# Altium integrated library Analog Devices Data Converters Analog-to-Digital Converters.IntLib: 2404 symbols (part 36 of 346)
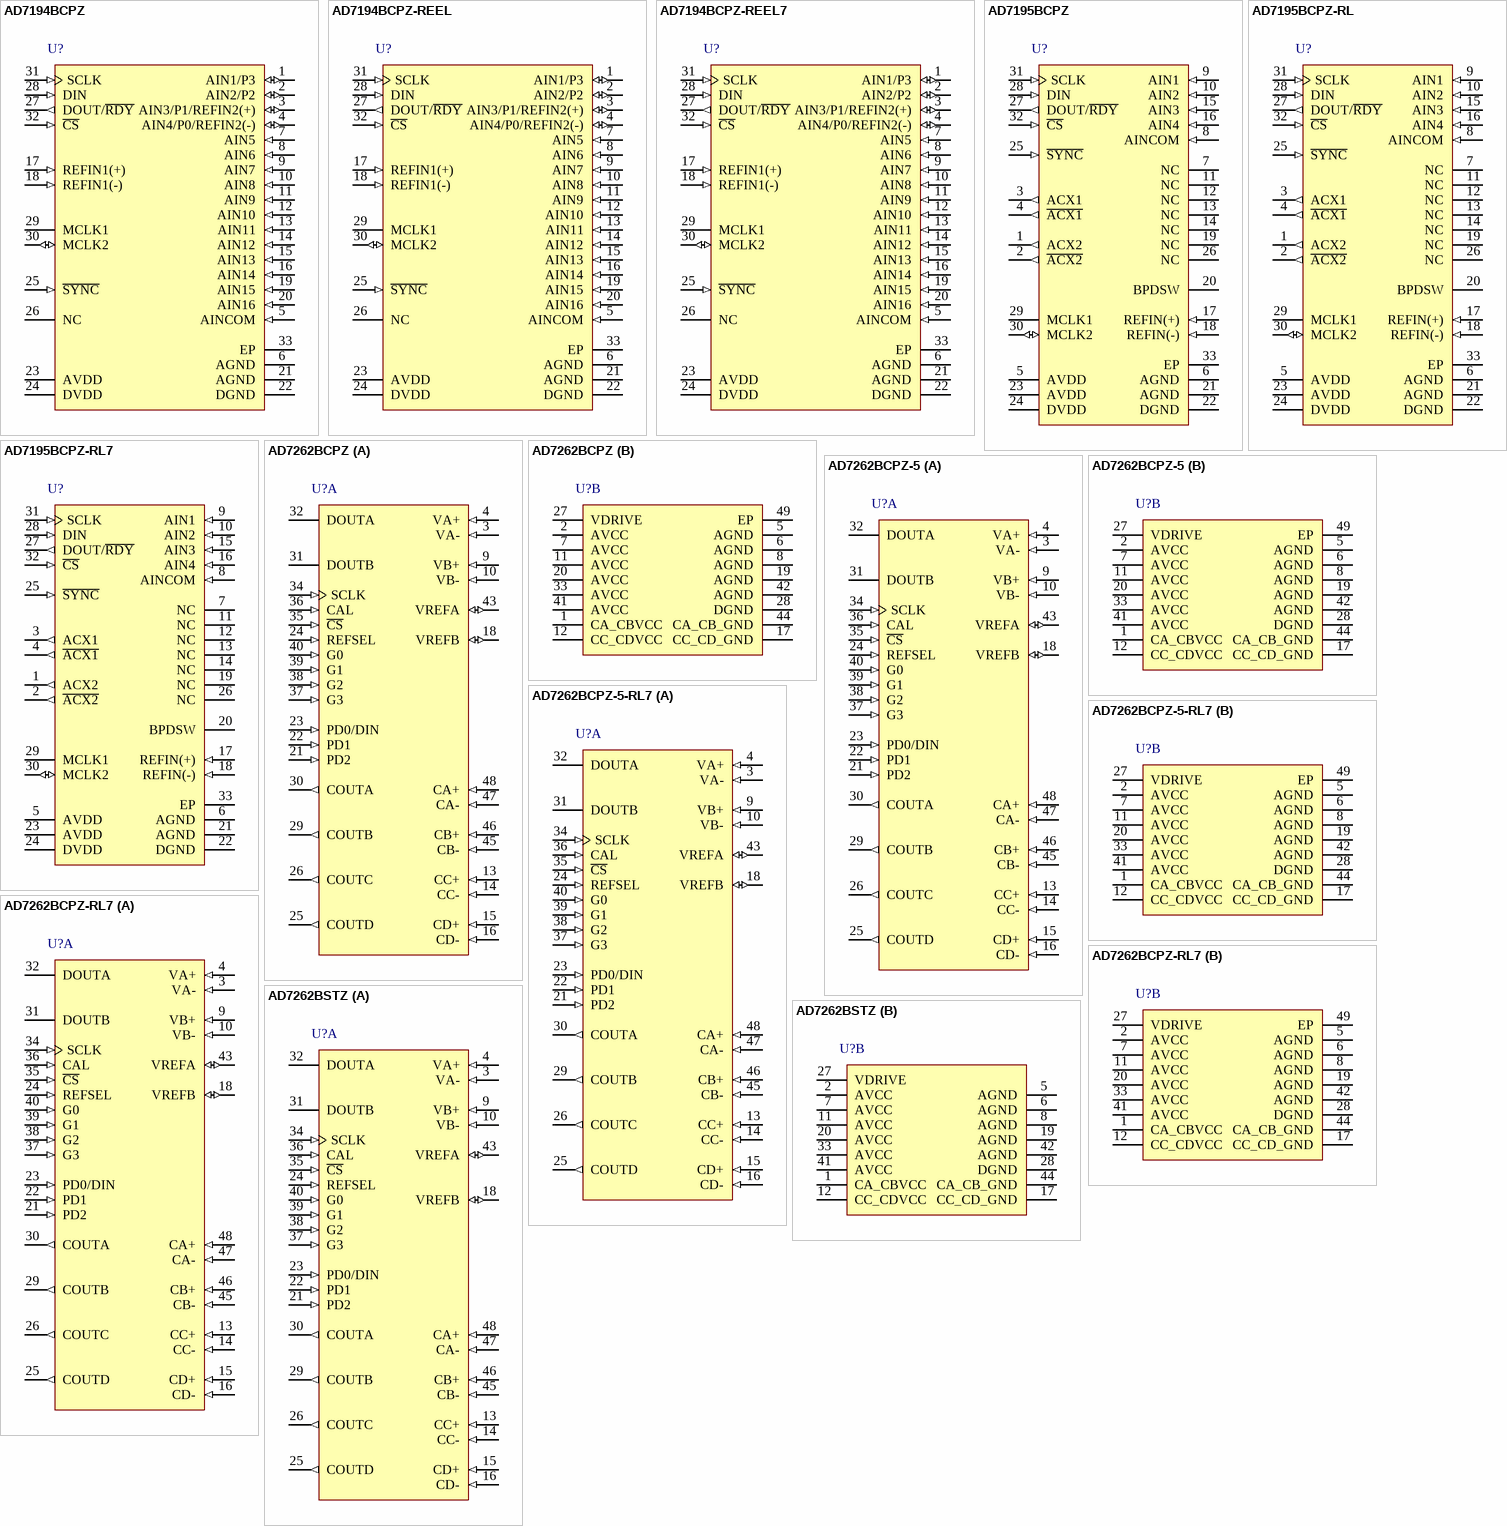
[diagram p174: symbols AD7194BCPZ to AD7262BSTZ]

## AD7262BSTZ
designator U?
Dual 12-Bit SAR Analog-to-Digital Converter with Serial, SPI Interface and PGA, Four Comparators, Simultaneous Sampling, 1MSPS, -40 to +105 degC, ST-48, Pb-Free, Tray; Generic Part Number: AD7262; Manufacturer: Analog Devices; PartNumber: AD7262BSTZ; Resolution (Bits): 12; Channels: 2; Throughput Rate (SPS): 1M; Interface: Ser, SPI; DatasheetVersion: Rev.0; PackageVersion: revA; PackageReference: ST-48; PackageDescription: 48-Pin Thin Quad Flat Pack 0.5 mm Pitch; Supplier 1: Digi-Key; Supplier Part Number 1: AD7262BSTZ-ND; Supplier 2: Newark; Supplier Part Number 2: 07P8946; Supplier 3: Mouser; Supplier Part Number 3: 584-AD7262BSTZ; RoHS: Y; Packing: Tray; Mounting Technology: Surface Mount; ComponentLink1Description: Manufacturer URL; ComponentLink1URL: http://www.analog.com/en/index.html; ComponentLink2Description: Datasheet; ComponentLink2URL: http://www.analog.com/static/imported-files/data_sheets/AD7262.pdf; ComponentLink3Description: Package Specification; ComponentLink3URL: http://www.analog.com/static/imported-files/packages/PKG_PDF/LQFP%28ST%29/ST_48.pdf; ComponentLink4Description: Product URL; ComponentLink4URL: http://www.analog.com/en/analog-to-digital-converters/ad-converters/ad7262/products/product.html
footprint ST-48_N (Thin QFP, 48-Leads, Body 7x7mm, Pitch 0.5mm, IPC Medium Density)
footprint ST-48_L (Thin QFP, 48-Leads, Body 7x7mm, Pitch 0.5mm, IPC High Density)
footprint ST-48_M (Thin QFP, 48-Leads, Body 7x7mm, Pitch 0.5mm, IPC Low Density)
part A pins: 3 VA- (in) "Analog Inputs of ADC A. True differential input pair.", 4 VA+ (in) "Analog Inputs of ADC A. True differential input pair.", 9 VB+ (in) "Analog Inputs of ADC B. True differential input pair.", 10 VB- (in) "Analog Inputs of ADC B. True differential input pair.", 13 CC+ (in) "Comparator Inputs. These pins are the inverting and noninverting analog inputs for Comparator C and Comparator D. This pair of comparators offers very fast propagation delays.", 14 CC- (in) "Comparator Inputs. These pins are the inverting and noninverting analog inputs for Comparator C and Comparator D. This pair of comparators offers very fast propagation delays.", 15 CD+ (in) "Comparator Inputs. These pins are the inverting and noninverting analog inputs for Comparator C and Comparator D. This pair of comparators offers very fast propagation delays.", 16 CD- (in) "Comparator Inputs. These pins are the inverting and noninverting analog inputs for Comparator C and Comparator D. This pair of comparators offers very fast propagation delays.", 18 VREFB (io) "Reference Input/Output. Decoupling capacitors are connected to these pins to decouple the internal reference buffer for each respective ADC. Typically, 1 uF capacitors are required to decouple the reference. Provided the (See Datasheet)", 21 PD2 (in) "Logic Input. Places the AD7262/AD7262-5 in selected shutdown mode in conjunction with the PD1 and PD0 pins (see Table 7).", 22 PD1 (in) "Logic Input. Places the AD7262/AD7262-5 in selected shutdown mode in conjunction with the PD2 and PD0 pins (see Table 7).", 23 PD0/DIN (in) "Logic Input/Data Input. Places the AD7262/AD7262-5 in selected shutdown mode in conjunction with the PD2 and PD1 pins (see Table 7). If all gain selection pins, G0 to G3, are tied low, this pin acts as the data input pin, (See Datasheet)", 24 REFSEL (in) "Internal/External Reference Selection. Logic input. If this pin is tied to a logic high voltage, the onchip 2.5 V reference is used as the reference source for both ADC A and ADC B. If the REFSEL pin is tied to GND, an (See Datasheet)", 25 COUTD (out) "Comparator Outputs. These pins provide a CMOS (push-pull) output from each respective comparator. These are digital output pins with logic levels determined by the VDRIVE supply.", 26 COUTC (out) "Comparator Outputs. These pins provide a CMOS (push-pull) output from each respective comparator. These are digital output pins with logic levels determined by the VDRIVE supply.", 29 COUTB (out) "Comparator Outputs. These pins provide a CMOS (push-pull) output from each respective comparator. These are digital output pins with logic levels determined by the VDRIVE supply.", 30 COUTA (out) "Comparator Outputs. These pins provide a CMOS (push-pull) output from each respective comparator. These are digital output pins with logic levels determined by the VDRIVE supply.", 31 DOUTB (hiz) "Serial Data Outputs. The data output from the AD7262/AD7262-5 is supplied to each pin as a serial data stream in twos complement format. The bits are clocked out on the falling edge of the SCLK input. A total of 31 SCLKs is (See Datasheet)", 32 DOUTA (hiz) "Serial Data Outputs. The data output from the AD7262/AD7262-5 is supplied to each pin as a serial data stream in twos complement format. The bits are clocked out on the falling edge of the SCLK input. A total of 31 SCLKs is (See Datasheet)", 34 SCLK (in) "Serial Clock. Logic input. A serial clock input provides the SCLK for accessing the data from the AD7262/AD7262-5. This clock is also used as the clock source for the conversion process. A minimum of 31 clocks is required to (See Datasheet)", 35 ~{CS} (in) "Chip Select. Active low logic input. This input initiates conversions on the AD7262/AD7262-5.", 36 CAL (in) "Logic Input. Initiates an internal offset calibration.", 37 G3 (in) "Logic Inputs. These pins are used to program the gain setting of the front-end amplifiers. If all four pins are tied low, the PD0 pin acts as a data input pin, DIN, and all programming is made via the control register (see (See Datasheet)", 38 G2 (in) "Logic Inputs. These pins are used to program the gain setting of the front-end amplifiers. If all four pins are tied low, the PD0 pin acts as a data input pin, DIN, and all programming is made via the control register (see (See Datasheet)", 39 G1 (in) "Logic Inputs. These pins are used to program the gain setting of the front-end amplifiers. If all four pins are tied low, the PD0 pin acts as a data input pin, DIN, and all programming is made via the control register (see (See Datasheet)", 40 G0 (in) "Logic Inputs. These pins are used to program the gain setting of the front-end amplifiers. If all four pins are tied low, the PD0 pin acts as a data input pin, DIN, and all programming is made via the control register (see (See Datasheet)", 43 VREFA (io) "Reference Input/Output. Decoupling capacitors are connected to these pins to decouple the internal reference buffer for each respective ADC. Typically, 1 uF capacitors are required to decouple the reference. Provided the (See Datasheet)", 45 CB- (in) "Comparator Inputs. These pins are the inverting and noninverting analog inputs for Comparator A and Comparator B. These two comparators have very low power consumption.", 46 CB+ (in) "Comparator Inputs. These pins are the inverting and noninverting analog inputs for Comparator A and Comparator B. These two comparators have very low power consumption.", 47 CA- (in) "Comparator Inputs. These pins are the inverting and noninverting analog inputs for Comparator A and Comparator B. These two comparators have very low power consumption.", 48 CA+ (in) "Comparator Inputs. These pins are the inverting and noninverting analog inputs for Comparator A and Comparator B. These two comparators have very low power consumption."
part B pins: 1 CA_CBVCC (power) "Comparator Supply Voltage, 2.7 V to 5.25 V. This is the supply voltage for Comparator A and Comparator B. This supply should be decoupled to CA_CB_GND. AVCC, CC_CDVCC, and CA_CBVCC can be tied together.", 2 AVCC (power) "Analog Supply Voltage, 4.75 V to 5.25 V. This is the supply voltage for the analog circuitry on the AD7262/AD7262-5. All AVCC pins can be tied together. This supply should be decoupled to AGND with a 100 nF ceramic capacitor (See Datasheet)", 5 AGND (power) "Analog Ground. Ground reference point for all analog circuitry on the AD7262/AD7262-5. All  analog input signals and any external reference signal should be referred to this AGND voltage.  All AGND pins should connect to the (See Datasheet)", 6 AGND (power) "Analog Ground. Ground reference point for all analog circuitry on the AD7262/AD7262-5. All  analog input signals and any external reference signal should be referred to this AGND voltage.  All AGND pins should connect to the (See Datasheet)", 7 AVCC (power) "Analog Supply Voltage, 4.75 V to 5.25 V. This is the supply voltage for the analog circuitry on the AD7262/AD7262-5. All AVCC pins can be tied together. This supply should be decoupled to AGND with a 100 nF ceramic capacitor (See Datasheet)", 8 AGND (power) "Analog Ground. Ground reference point for all analog circuitry on the AD7262/AD7262-5. All  analog input signals and any external reference signal should be referred to this AGND voltage.  All AGND pins should connect to the (See Datasheet)", 11 AVCC (power) "Analog Supply Voltage, 4.75 V to 5.25 V. This is the supply voltage for the analog circuitry on the AD7262/AD7262-5. All AVCC pins can be tied together. This supply should be decoupled to AGND with a 100 nF ceramic capacitor (See Datasheet)", 12 CC_CDVCC (power) "Comparator Supply Voltage, 2.7 V to 5.25 V. This is the supply voltage for Comparator C and Comparator D. This supply should be decoupled to CC_CD_GND. AVCC, CC_CDVCC, and CA_CBVCC can be tied together.", 17 CC_CD_GND (power) "Comparator Ground. This is the ground reference point for all comparator circuitry on the AD7262/ AD7262-5. Both the CA_CB_GND pin and the CC_CD_GND pin should connect to the GND plane of a system and can be tied to AGND. (See Datasheet)", 19 AGND (power) "Analog Ground. Ground reference point for all analog circuitry on the AD7262/AD7262-5. All  analog input signals and any external reference signal should be referred to this AGND voltage.  All AGND pins should connect to the (See Datasheet)", 20 AVCC (power) "Analog Supply Voltage, 4.75 V to 5.25 V. This is the supply voltage for the analog circuitry on the AD7262/AD7262-5. All AVCC pins can be tied together. This supply should be decoupled to AGND with a 100 nF ceramic capacitor (See Datasheet)", 27 VDRIVE (power) "Logic Power Supply Input, 2.7 V to 5.25 V. The voltage supplied at this pin determines at what voltage the interface operates, including the comparator outputs. This pin should be decoupled to DGND.", 28 DGND (power) "Digital Ground. This is the ground reference point for all digital circuitry on the AD7262/AD7262-5. The DGND pin should be connected to the DGND plane of a system. The DGND and AGND voltages should ideally be at the same (See Datasheet)", 33 AVCC (power) "Analog Supply Voltage, 4.75 V to 5.25 V. This is the supply voltage for the analog circuitry on the AD7262/AD7262-5. All AVCC pins can be tied together. This supply should be decoupled to AGND with a 100 nF ceramic capacitor (See Datasheet)", 41 AVCC (power) "Analog Supply Voltage, 4.75 V to 5.25 V. This is the supply voltage for the analog circuitry on the AD7262/AD7262-5. All AVCC pins can be tied together. This supply should be decoupled to AGND with a 100 nF ceramic capacitor (See Datasheet)", 42 AGND (power) "Analog Ground. Ground reference point for all analog circuitry on the AD7262/AD7262-5. All  analog input signals and any external reference signal should be referred to this AGND voltage.  All AGND pins should connect to the (See Datasheet)", 44 CA_CB_GND (power) "Comparator Ground. This is the ground reference point for all comparator circuitry on the AD7262/ AD7262-5. Both the CA_CB_GND pin and the CC_CD_GND pin should connect to the GND plane of a system and can be tied to AGND. (See Datasheet)"

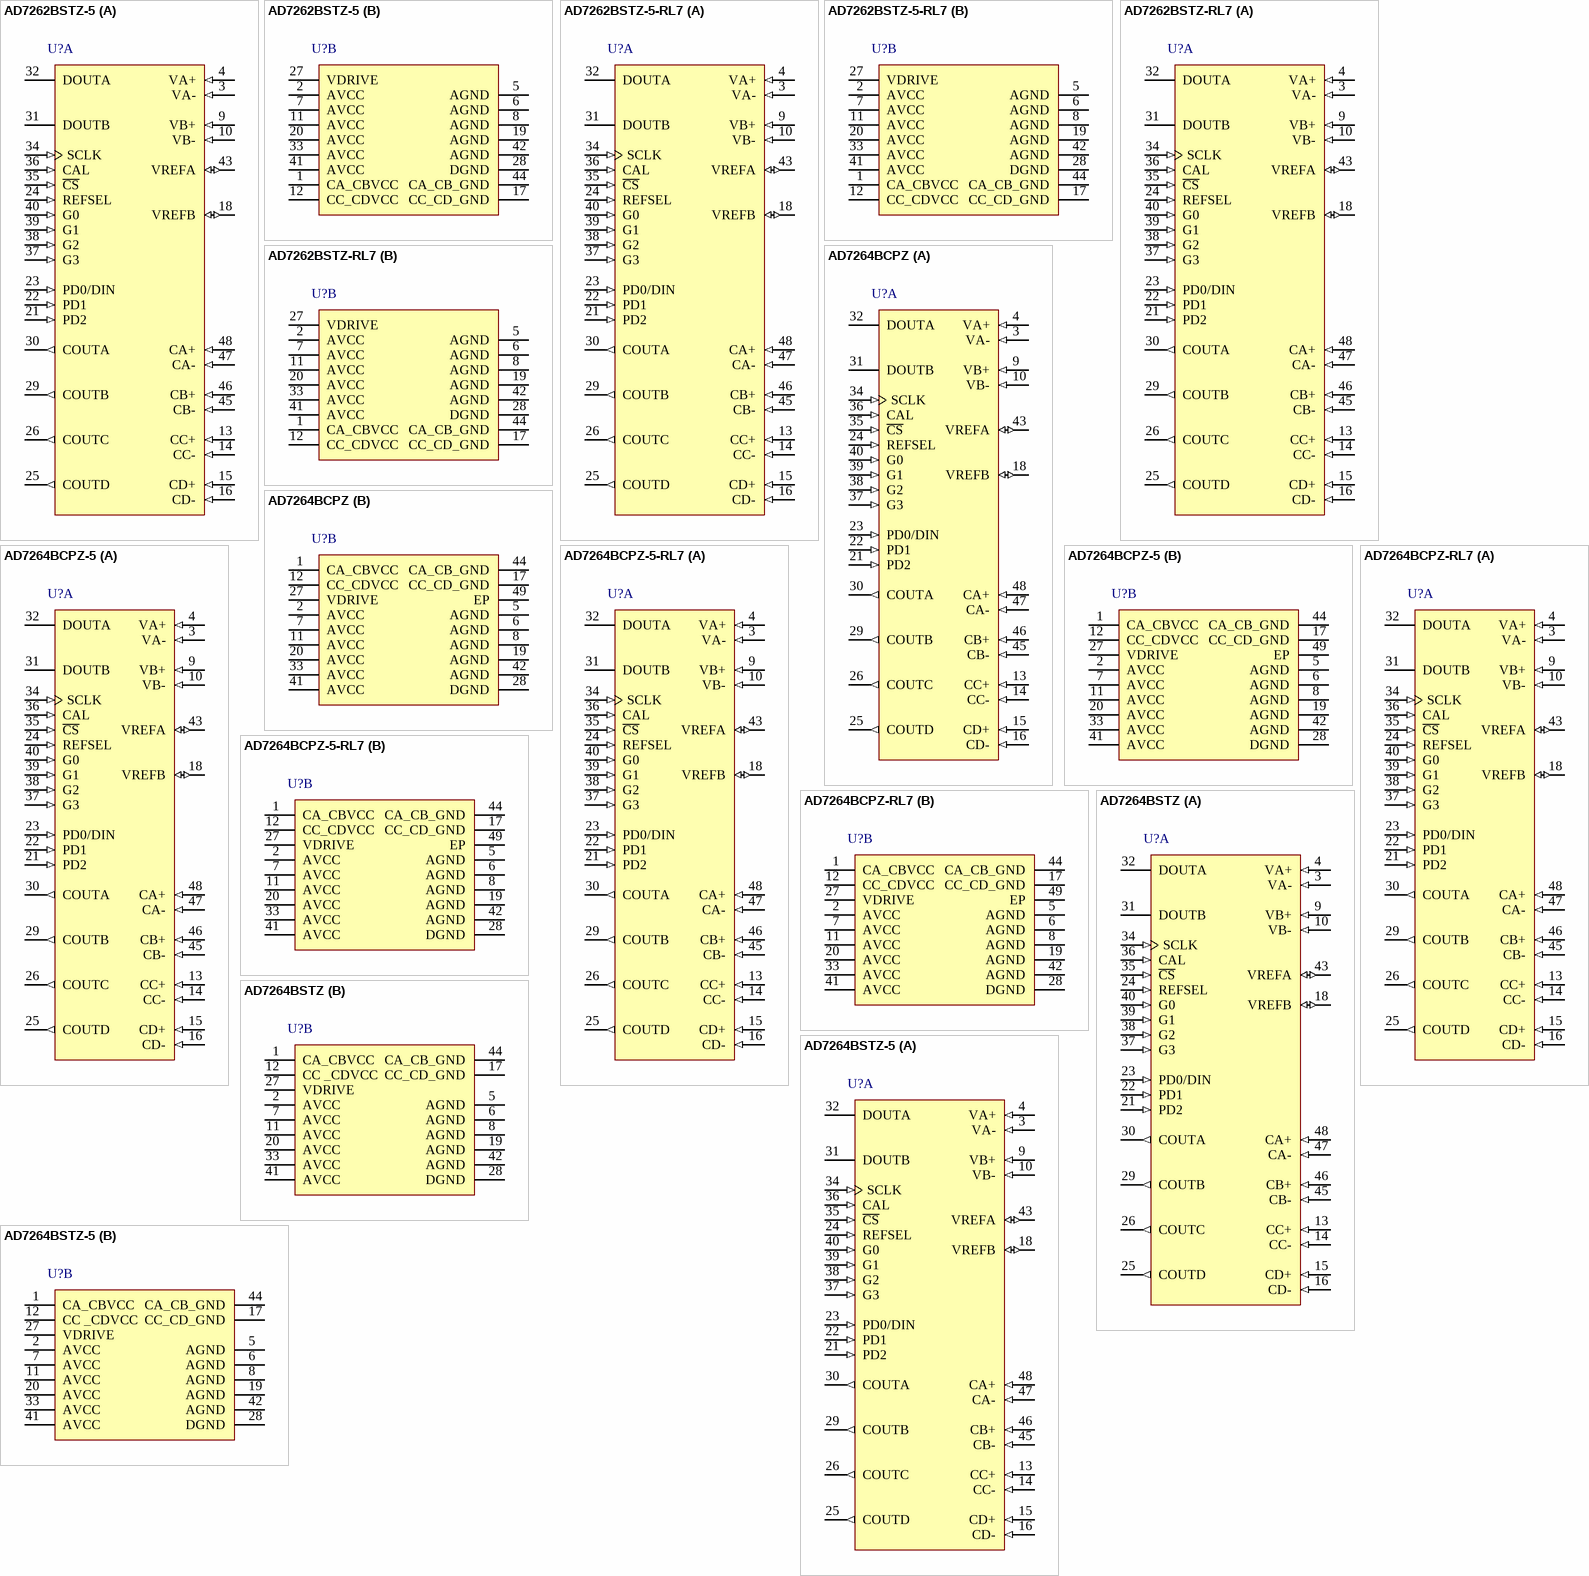
[diagram p16: symbols AD7262BSTZ-5 to AD7264BSTZ-5]

## AD7262BSTZ-5
designator U?
Dual 12-Bit SAR Analog-to-Digital Converter with Serial, SPI Interface and PGA, Four Comparators, Simultaneous Sampling, 500KSPS, -40 to +105 degC, ST-48, Pb-Free, Tray; Generic Part Number: AD7262-5; Manufacturer: Analog Devices; PartNumber: AD7262BSTZ-5; Resolution (Bits): 12; Channels: 2; Throughput Rate (SPS): 500K; Interface: Ser, SPI; DatasheetVersion: Rev.0; PackageVersion: revA; PackageReference: ST-48; PackageDescription: 48-Pin Thin Quad Flat Pack 0.5 mm Pitch; Supplier 1: Digi-Key; Supplier Part Number 1: AD7262BSTZ-5-ND; Supplier 2: Mouser; Supplier Part Number 2: 584-AD7262BSTZ-5; RoHS: Y; Packing: Tray; Mounting Technology: Surface Mount; ComponentLink1Description: Manufacturer URL; ComponentLink1URL: http://www.analog.com/en/index.html; ComponentLink2Description: Datasheet; ComponentLink2URL: http://www.analog.com/static/imported-files/data_sheets/AD7262.pdf; ComponentLink3Description: Package Specification; ComponentLink3URL: http://www.analog.com/static/imported-files/packages/PKG_PDF/LQFP%28ST%29/ST_48.pdf; ComponentLink4Description: Product URL; ComponentLink4URL: http://www.analog.com/en/analog-to-digital-converters/ad-converters/ad7262/products/product.html
footprint ST-48_N (Thin QFP, 48-Leads, Body 7x7mm, Pitch 0.5mm, IPC Medium Density)
footprint ST-48_L (Thin QFP, 48-Leads, Body 7x7mm, Pitch 0.5mm, IPC High Density)
footprint ST-48_M (Thin QFP, 48-Leads, Body 7x7mm, Pitch 0.5mm, IPC Low Density)
part A pins: 3 VA- (in) "Analog Inputs of ADC A. True differential input pair.", 4 VA+ (in) "Analog Inputs of ADC A. True differential input pair.", 9 VB+ (in) "Analog Inputs of ADC B. True differential input pair.", 10 VB- (in) "Analog Inputs of ADC B. True differential input pair.", 13 CC+ (in) "Comparator Inputs. These pins are the inverting and noninverting analog inputs for Comparator C and Comparator D. This pair of comparators offers very fast propagation delays.", 14 CC- (in) "Comparator Inputs. These pins are the inverting and noninverting analog inputs for Comparator C and Comparator D. This pair of comparators offers very fast propagation delays.", 15 CD+ (in) "Comparator Inputs. These pins are the inverting and noninverting analog inputs for Comparator C and Comparator D. This pair of comparators offers very fast propagation delays.", 16 CD- (in) "Comparator Inputs. These pins are the inverting and noninverting analog inputs for Comparator C and Comparator D. This pair of comparators offers very fast propagation delays.", 18 VREFB (io) "Reference Input/Output. Decoupling capacitors are connected to these pins to decouple the internal reference buffer for each respective ADC. Typically, 1 uF capacitors are required to decouple the reference. Provided the (See Datasheet)", 21 PD2 (in) "Logic Input. Places the AD7262/AD7262-5 in selected shutdown mode in conjunction with the PD1 and PD0 pins (see Table 7).", 22 PD1 (in) "Logic Input. Places the AD7262/AD7262-5 in selected shutdown mode in conjunction with the PD2 and PD0 pins (see Table 7).", 23 PD0/DIN (in) "Logic Input/Data Input. Places the AD7262/AD7262-5 in selected shutdown mode in conjunction with the PD2 and PD1 pins (see Table 7). If all gain selection pins, G0 to G3, are tied low, this pin acts as the data input pin, (See Datasheet)", 24 REFSEL (in) "Internal/External Reference Selection. Logic input. If this pin is tied to a logic high voltage, the onchip 2.5 V reference is used as the reference source for both ADC A and ADC B. If the REFSEL pin is tied to GND, an (See Datasheet)", 25 COUTD (out) "Comparator Outputs. These pins provide a CMOS (push-pull) output from each respective comparator. These are digital output pins with logic levels determined by the VDRIVE supply.", 26 COUTC (out) "Comparator Outputs. These pins provide a CMOS (push-pull) output from each respective comparator. These are digital output pins with logic levels determined by the VDRIVE supply.", 29 COUTB (out) "Comparator Outputs. These pins provide a CMOS (push-pull) output from each respective comparator. These are digital output pins with logic levels determined by the VDRIVE supply.", 30 COUTA (out) "Comparator Outputs. These pins provide a CMOS (push-pull) output from each respective comparator. These are digital output pins with logic levels determined by the VDRIVE supply.", 31 DOUTB (hiz) "Serial Data Outputs. The data output from the AD7262/AD7262-5 is supplied to each pin as a serial data stream in twos complement format. The bits are clocked out on the falling edge of the SCLK input. A total of 31 SCLKs is (See Datasheet)", 32 DOUTA (hiz) "Serial Data Outputs. The data output from the AD7262/AD7262-5 is supplied to each pin as a serial data stream in twos complement format. The bits are clocked out on the falling edge of the SCLK input. A total of 31 SCLKs is (See Datasheet)", 34 SCLK (in) "Serial Clock. Logic input. A serial clock input provides the SCLK for accessing the data from the AD7262/AD7262-5. This clock is also used as the clock source for the conversion process. A minimum of 31 clocks is required to (See Datasheet)", 35 ~{CS} (in) "Chip Select. Active low logic input. This input initiates conversions on the AD7262/AD7262-5.", 36 CAL (in) "Logic Input. Initiates an internal offset calibration.", 37 G3 (in) "Logic Inputs. These pins are used to program the gain setting of the front-end amplifiers. If all four pins are tied low, the PD0 pin acts as a data input pin, DIN, and all programming is made via the control register (see (See Datasheet)", 38 G2 (in) "Logic Inputs. These pins are used to program the gain setting of the front-end amplifiers. If all four pins are tied low, the PD0 pin acts as a data input pin, DIN, and all programming is made via the control register (see (See Datasheet)", 39 G1 (in) "Logic Inputs. These pins are used to program the gain setting of the front-end amplifiers. If all four pins are tied low, the PD0 pin acts as a data input pin, DIN, and all programming is made via the control register (see (See Datasheet)", 40 G0 (in) "Logic Inputs. These pins are used to program the gain setting of the front-end amplifiers. If all four pins are tied low, the PD0 pin acts as a data input pin, DIN, and all programming is made via the control register (see (See Datasheet)", 43 VREFA (io) "Reference Input/Output. Decoupling capacitors are connected to these pins to decouple the internal reference buffer for each respective ADC. Typically, 1 uF capacitors are required to decouple the reference. Provided the (See Datasheet)", 45 CB- (in) "Comparator Inputs. These pins are the inverting and noninverting analog inputs for Comparator A and Comparator B. These two comparators have very low power consumption.", 46 CB+ (in) "Comparator Inputs. These pins are the inverting and noninverting analog inputs for Comparator A and Comparator B. These two comparators have very low power consumption.", 47 CA- (in) "Comparator Inputs. These pins are the inverting and noninverting analog inputs for Comparator A and Comparator B. These two comparators have very low power consumption.", 48 CA+ (in) "Comparator Inputs. These pins are the inverting and noninverting analog inputs for Comparator A and Comparator B. These two comparators have very low power consumption."
part B pins: 1 CA_CBVCC (power) "Comparator Supply Voltage, 2.7 V to 5.25 V. This is the supply voltage for Comparator A and Comparator B. This supply should be decoupled to CA_CB_GND. AVCC, CC_CDVCC, and CA_CBVCC can be tied together.", 2 AVCC (power) "Analog Supply Voltage, 4.75 V to 5.25 V. This is the supply voltage for the analog circuitry on the AD7262/AD7262-5. All AVCC pins can be tied together. This supply should be decoupled to AGND with a 100 nF ceramic capacitor (See Datasheet)", 5 AGND (power) "Analog Ground. Ground reference point for all analog circuitry on the AD7262/AD7262-5. All  analog input signals and any external reference signal should be referred to this AGND voltage.  All AGND pins should connect to the (See Datasheet)", 6 AGND (power) "Analog Ground. Ground reference point for all analog circuitry on the AD7262/AD7262-5. All  analog input signals and any external reference signal should be referred to this AGND voltage.  All AGND pins should connect to the (See Datasheet)", 7 AVCC (power) "Analog Supply Voltage, 4.75 V to 5.25 V. This is the supply voltage for the analog circuitry on the AD7262/AD7262-5. All AVCC pins can be tied together. This supply should be decoupled to AGND with a 100 nF ceramic capacitor (See Datasheet)", 8 AGND (power) "Analog Ground. Ground reference point for all analog circuitry on the AD7262/AD7262-5. All  analog input signals and any external reference signal should be referred to this AGND voltage.  All AGND pins should connect to the (See Datasheet)", 11 AVCC (power) "Analog Supply Voltage, 4.75 V to 5.25 V. This is the supply voltage for the analog circuitry on the AD7262/AD7262-5. All AVCC pins can be tied together. This supply should be decoupled to AGND with a 100 nF ceramic capacitor (See Datasheet)", 12 CC_CDVCC (power) "Comparator Supply Voltage, 2.7 V to 5.25 V. This is the supply voltage for Comparator C and Comparator D. This supply should be decoupled to CC_CD_GND. AVCC, CC_CDVCC, and CA_CBVCC can be tied together.", 17 CC_CD_GND (power) "Comparator Ground. This is the ground reference point for all comparator circuitry on the AD7262/ AD7262-5. Both the CA_CB_GND pin and the CC_CD_GND pin should connect to the GND plane of a system and can be tied to AGND. (See Datasheet)", 19 AGND (power) "Analog Ground. Ground reference point for all analog circuitry on the AD7262/AD7262-5. All  analog input signals and any external reference signal should be referred to this AGND voltage.  All AGND pins should connect to the (See Datasheet)", 20 AVCC (power) "Analog Supply Voltage, 4.75 V to 5.25 V. This is the supply voltage for the analog circuitry on the AD7262/AD7262-5. All AVCC pins can be tied together. This supply should be decoupled to AGND with a 100 nF ceramic capacitor (See Datasheet)", 27 VDRIVE (power) "Logic Power Supply Input, 2.7 V to 5.25 V. The voltage supplied at this pin determines at what voltage the interface operates, including the comparator outputs. This pin should be decoupled to DGND.", 28 DGND (power) "Digital Ground. This is the ground reference point for all digital circuitry on the AD7262/AD7262-5. The DGND pin should be connected to the DGND plane of a system. The DGND and AGND voltages should ideally be at the same (See Datasheet)", 33 AVCC (power) "Analog Supply Voltage, 4.75 V to 5.25 V. This is the supply voltage for the analog circuitry on the AD7262/AD7262-5. All AVCC pins can be tied together. This supply should be decoupled to AGND with a 100 nF ceramic capacitor (See Datasheet)", 41 AVCC (power) "Analog Supply Voltage, 4.75 V to 5.25 V. This is the supply voltage for the analog circuitry on the AD7262/AD7262-5. All AVCC pins can be tied together. This supply should be decoupled to AGND with a 100 nF ceramic capacitor (See Datasheet)", 42 AGND (power) "Analog Ground. Ground reference point for all analog circuitry on the AD7262/AD7262-5. All  analog input signals and any external reference signal should be referred to this AGND voltage.  All AGND pins should connect to the (See Datasheet)", 44 CA_CB_GND (power) "Comparator Ground. This is the ground reference point for all comparator circuitry on the AD7262/ AD7262-5. Both the CA_CB_GND pin and the CC_CD_GND pin should connect to the GND plane of a system and can be tied to AGND. (See Datasheet)"

## AD7262BSTZ-5-RL7
designator U?
Dual 12-Bit SAR Analog-to-Digital Converter with Serial, SPI Interface and PGA, Four Comparators, Simultaneous Sampling, 500KSPS, -40 to +105 degC, ST-48, Pb-Free, Reel; Generic Part Number: AD7262-5; Manufacturer: Analog Devices; PartNumber: AD7262BSTZ-5-RL7; Resolution (Bits): 12; Channels: 2; Throughput Rate (SPS): 500K; Interface: Ser, SPI; DatasheetVersion: Rev.0; PackageVersion: revA; PackageReference: ST-48; PackageDescription: 48-Pin Thin Quad Flat Pack 0.5 mm Pitch; Supplier 1: Digi-Key; Supplier Part Number 1: AD7262BSTZ-5-RL7TR-ND; Supplier 2: Digi-Key; Supplier Part Number 2: AD7262BSTZ-5-RL7CT-ND; Supplier 3: Digi-Key; Supplier Part Number 3: AD7262BSTZ-5-RL7DKR-ND; Supplier 4: Mouser; Supplier Part Number 4: 584-AD7262BSTZ-5-R7; RoHS: Y; Packing: Reel; Mounting Technology: Surface Mount; ComponentLink1Description: Manufacturer URL; ComponentLink1URL: http://www.analog.com/en/index.html; ComponentLink2Description: Datasheet; ComponentLink2URL: http://www.analog.com/static/imported-files/data_sheets/AD7262.pdf; ComponentLink3Description: Package Specification; ComponentLink3URL: http://www.analog.com/static/imported-files/packages/PKG_PDF/LQFP%28ST%29/ST_48.pdf; ComponentLink4Description: Product URL; ComponentLink4URL: http://www.analog.com/en/analog-to-digital-converters/ad-converters/ad7262/products/product.html
footprint ST-48_N (Thin QFP, 48-Leads, Body 7x7mm, Pitch 0.5mm, IPC Medium Density)
footprint ST-48_L (Thin QFP, 48-Leads, Body 7x7mm, Pitch 0.5mm, IPC High Density)
footprint ST-48_M (Thin QFP, 48-Leads, Body 7x7mm, Pitch 0.5mm, IPC Low Density)
part A pins: 3 VA- (in) "Analog Inputs of ADC A. True differential input pair.", 4 VA+ (in) "Analog Inputs of ADC A. True differential input pair.", 9 VB+ (in) "Analog Inputs of ADC B. True differential input pair.", 10 VB- (in) "Analog Inputs of ADC B. True differential input pair.", 13 CC+ (in) "Comparator Inputs. These pins are the inverting and noninverting analog inputs for Comparator C and Comparator D. This pair of comparators offers very fast propagation delays.", 14 CC- (in) "Comparator Inputs. These pins are the inverting and noninverting analog inputs for Comparator C and Comparator D. This pair of comparators offers very fast propagation delays.", 15 CD+ (in) "Comparator Inputs. These pins are the inverting and noninverting analog inputs for Comparator C and Comparator D. This pair of comparators offers very fast propagation delays.", 16 CD- (in) "Comparator Inputs. These pins are the inverting and noninverting analog inputs for Comparator C and Comparator D. This pair of comparators offers very fast propagation delays.", 18 VREFB (io) "Reference Input/Output. Decoupling capacitors are connected to these pins to decouple the internal reference buffer for each respective ADC. Typically, 1 uF capacitors are required to decouple the reference. Provided the (See Datasheet)", 21 PD2 (in) "Logic Input. Places the AD7262/AD7262-5 in selected shutdown mode in conjunction with the PD1 and PD0 pins (see Table 7).", 22 PD1 (in) "Logic Input. Places the AD7262/AD7262-5 in selected shutdown mode in conjunction with the PD2 and PD0 pins (see Table 7).", 23 PD0/DIN (in) "Logic Input/Data Input. Places the AD7262/AD7262-5 in selected shutdown mode in conjunction with the PD2 and PD1 pins (see Table 7). If all gain selection pins, G0 to G3, are tied low, this pin acts as the data input pin, (See Datasheet)", 24 REFSEL (in) "Internal/External Reference Selection. Logic input. If this pin is tied to a logic high voltage, the onchip 2.5 V reference is used as the reference source for both ADC A and ADC B. If the REFSEL pin is tied to GND, an (See Datasheet)", 25 COUTD (out) "Comparator Outputs. These pins provide a CMOS (push-pull) output from each respective comparator. These are digital output pins with logic levels determined by the VDRIVE supply.", 26 COUTC (out) "Comparator Outputs. These pins provide a CMOS (push-pull) output from each respective comparator. These are digital output pins with logic levels determined by the VDRIVE supply.", 29 COUTB (out) "Comparator Outputs. These pins provide a CMOS (push-pull) output from each respective comparator. These are digital output pins with logic levels determined by the VDRIVE supply.", 30 COUTA (out) "Comparator Outputs. These pins provide a CMOS (push-pull) output from each respective comparator. These are digital output pins with logic levels determined by the VDRIVE supply.", 31 DOUTB (hiz) "Serial Data Outputs. The data output from the AD7262/AD7262-5 is supplied to each pin as a serial data stream in twos complement format. The bits are clocked out on the falling edge of the SCLK input. A total of 31 SCLKs is (See Datasheet)", 32 DOUTA (hiz) "Serial Data Outputs. The data output from the AD7262/AD7262-5 is supplied to each pin as a serial data stream in twos complement format. The bits are clocked out on the falling edge of the SCLK input. A total of 31 SCLKs is (See Datasheet)", 34 SCLK (in) "Serial Clock. Logic input. A serial clock input provides the SCLK for accessing the data from the AD7262/AD7262-5. This clock is also used as the clock source for the conversion process. A minimum of 31 clocks is required to (See Datasheet)", 35 ~{CS} (in) "Chip Select. Active low logic input. This input initiates conversions on the AD7262/AD7262-5.", 36 CAL (in) "Logic Input. Initiates an internal offset calibration.", 37 G3 (in) "Logic Inputs. These pins are used to program the gain setting of the front-end amplifiers. If all four pins are tied low, the PD0 pin acts as a data input pin, DIN, and all programming is made via the control register (see (See Datasheet)", 38 G2 (in) "Logic Inputs. These pins are used to program the gain setting of the front-end amplifiers. If all four pins are tied low, the PD0 pin acts as a data input pin, DIN, and all programming is made via the control register (see (See Datasheet)", 39 G1 (in) "Logic Inputs. These pins are used to program the gain setting of the front-end amplifiers. If all four pins are tied low, the PD0 pin acts as a data input pin, DIN, and all programming is made via the control register (see (See Datasheet)", 40 G0 (in) "Logic Inputs. These pins are used to program the gain setting of the front-end amplifiers. If all four pins are tied low, the PD0 pin acts as a data input pin, DIN, and all programming is made via the control register (see (See Datasheet)", 43 VREFA (io) "Reference Input/Output. Decoupling capacitors are connected to these pins to decouple the internal reference buffer for each respective ADC. Typically, 1 uF capacitors are required to decouple the reference. Provided the (See Datasheet)", 45 CB- (in) "Comparator Inputs. These pins are the inverting and noninverting analog inputs for Comparator A and Comparator B. These two comparators have very low power consumption.", 46 CB+ (in) "Comparator Inputs. These pins are the inverting and noninverting analog inputs for Comparator A and Comparator B. These two comparators have very low power consumption.", 47 CA- (in) "Comparator Inputs. These pins are the inverting and noninverting analog inputs for Comparator A and Comparator B. These two comparators have very low power consumption.", 48 CA+ (in) "Comparator Inputs. These pins are the inverting and noninverting analog inputs for Comparator A and Comparator B. These two comparators have very low power consumption."
part B pins: 1 CA_CBVCC (power) "Comparator Supply Voltage, 2.7 V to 5.25 V. This is the supply voltage for Comparator A and Comparator B. This supply should be decoupled to CA_CB_GND. AVCC, CC_CDVCC, and CA_CBVCC can be tied together.", 2 AVCC (power) "Analog Supply Voltage, 4.75 V to 5.25 V. This is the supply voltage for the analog circuitry on the AD7262/AD7262-5. All AVCC pins can be tied together. This supply should be decoupled to AGND with a 100 nF ceramic capacitor (See Datasheet)", 5 AGND (power) "Analog Ground. Ground reference point for all analog circuitry on the AD7262/AD7262-5. All  analog input signals and any external reference signal should be referred to this AGND voltage.  All AGND pins should connect to the (See Datasheet)", 6 AGND (power) "Analog Ground. Ground reference point for all analog circuitry on the AD7262/AD7262-5. All  analog input signals and any external reference signal should be referred to this AGND voltage.  All AGND pins should connect to the (See Datasheet)", 7 AVCC (power) "Analog Supply Voltage, 4.75 V to 5.25 V. This is the supply voltage for the analog circuitry on the AD7262/AD7262-5. All AVCC pins can be tied together. This supply should be decoupled to AGND with a 100 nF ceramic capacitor (See Datasheet)", 8 AGND (power) "Analog Ground. Ground reference point for all analog circuitry on the AD7262/AD7262-5. All  analog input signals and any external reference signal should be referred to this AGND voltage.  All AGND pins should connect to the (See Datasheet)", 11 AVCC (power) "Analog Supply Voltage, 4.75 V to 5.25 V. This is the supply voltage for the analog circuitry on the AD7262/AD7262-5. All AVCC pins can be tied together. This supply should be decoupled to AGND with a 100 nF ceramic capacitor (See Datasheet)", 12 CC_CDVCC (power) "Comparator Supply Voltage, 2.7 V to 5.25 V. This is the supply voltage for Comparator C and Comparator D. This supply should be decoupled to CC_CD_GND. AVCC, CC_CDVCC, and CA_CBVCC can be tied together.", 17 CC_CD_GND (power) "Comparator Ground. This is the ground reference point for all comparator circuitry on the AD7262/ AD7262-5. Both the CA_CB_GND pin and the CC_CD_GND pin should connect to the GND plane of a system and can be tied to AGND. (See Datasheet)", 19 AGND (power) "Analog Ground. Ground reference point for all analog circuitry on the AD7262/AD7262-5. All  analog input signals and any external reference signal should be referred to this AGND voltage.  All AGND pins should connect to the (See Datasheet)", 20 AVCC (power) "Analog Supply Voltage, 4.75 V to 5.25 V. This is the supply voltage for the analog circuitry on the AD7262/AD7262-5. All AVCC pins can be tied together. This supply should be decoupled to AGND with a 100 nF ceramic capacitor (See Datasheet)", 27 VDRIVE (power) "Logic Power Supply Input, 2.7 V to 5.25 V. The voltage supplied at this pin determines at what voltage the interface operates, including the comparator outputs. This pin should be decoupled to DGND.", 28 DGND (power) "Digital Ground. This is the ground reference point for all digital circuitry on the AD7262/AD7262-5. The DGND pin should be connected to the DGND plane of a system. The DGND and AGND voltages should ideally be at the same (See Datasheet)", 33 AVCC (power) "Analog Supply Voltage, 4.75 V to 5.25 V. This is the supply voltage for the analog circuitry on the AD7262/AD7262-5. All AVCC pins can be tied together. This supply should be decoupled to AGND with a 100 nF ceramic capacitor (See Datasheet)", 41 AVCC (power) "Analog Supply Voltage, 4.75 V to 5.25 V. This is the supply voltage for the analog circuitry on the AD7262/AD7262-5. All AVCC pins can be tied together. This supply should be decoupled to AGND with a 100 nF ceramic capacitor (See Datasheet)", 42 AGND (power) "Analog Ground. Ground reference point for all analog circuitry on the AD7262/AD7262-5. All  analog input signals and any external reference signal should be referred to this AGND voltage.  All AGND pins should connect to the (See Datasheet)", 44 CA_CB_GND (power) "Comparator Ground. This is the ground reference point for all comparator circuitry on the AD7262/ AD7262-5. Both the CA_CB_GND pin and the CC_CD_GND pin should connect to the GND plane of a system and can be tied to AGND. (See Datasheet)"

## AD7262BSTZ-RL7
designator U?
Dual 12-Bit SAR Analog-to-Digital Converter with Serial, SPI Interface and PGA, Four Comparators, Simultaneous Sampling, 1MSPS, -40 to +105 degC, ST-48, Pb-Free, Reel; Generic Part Number: AD7262; Manufacturer: Analog Devices; PartNumber: AD7262BSTZ-RL7; Resolution (Bits): 12; Channels: 2; Throughput Rate (SPS): 1M; Interface: Ser, SPI; DatasheetVersion: Rev.0; PackageVersion: revA; PackageReference: ST-48; PackageDescription: 48-Pin Thin Quad Flat Pack 0.5 mm Pitch; Supplier 1: Digi-Key; Supplier Part Number 1: AD7262BSTZ-RL7TR-ND; Supplier 2: Digi-Key; Supplier Part Number 2: AD7262BSTZ-RL7CT-ND; Supplier 3: Digi-Key; Supplier Part Number 3: AD7262BSTZ-RL7DKR-ND; Supplier 4: Mouser; Supplier Part Number 4: 584-AD7262BSTZ-R7; RoHS: Y; Packing: Reel; Mounting Technology: Surface Mount; ComponentLink1Description: Manufacturer URL; ComponentLink1URL: http://www.analog.com/en/index.html; ComponentLink2Description: Datasheet; ComponentLink2URL: http://www.analog.com/static/imported-files/data_sheets/AD7262.pdf; ComponentLink3Description: Package Specification; ComponentLink3URL: http://www.analog.com/static/imported-files/packages/PKG_PDF/LQFP%28ST%29/ST_48.pdf; ComponentLink4Description: Product URL; ComponentLink4URL: http://www.analog.com/en/analog-to-digital-converters/ad-converters/ad7262/products/product.html
footprint ST-48_N (Thin QFP, 48-Leads, Body 7x7mm, Pitch 0.5mm, IPC Medium Density)
footprint ST-48_L (Thin QFP, 48-Leads, Body 7x7mm, Pitch 0.5mm, IPC High Density)
footprint ST-48_M (Thin QFP, 48-Leads, Body 7x7mm, Pitch 0.5mm, IPC Low Density)
part A pins: 3 VA- (in) "Analog Inputs of ADC A. True differential input pair.", 4 VA+ (in) "Analog Inputs of ADC A. True differential input pair.", 9 VB+ (in) "Analog Inputs of ADC B. True differential input pair.", 10 VB- (in) "Analog Inputs of ADC B. True differential input pair.", 13 CC+ (in) "Comparator Inputs. These pins are the inverting and noninverting analog inputs for Comparator C and Comparator D. This pair of comparators offers very fast propagation delays.", 14 CC- (in) "Comparator Inputs. These pins are the inverting and noninverting analog inputs for Comparator C and Comparator D. This pair of comparators offers very fast propagation delays.", 15 CD+ (in) "Comparator Inputs. These pins are the inverting and noninverting analog inputs for Comparator C and Comparator D. This pair of comparators offers very fast propagation delays.", 16 CD- (in) "Comparator Inputs. These pins are the inverting and noninverting analog inputs for Comparator C and Comparator D. This pair of comparators offers very fast propagation delays.", 18 VREFB (io) "Reference Input/Output. Decoupling capacitors are connected to these pins to decouple the internal reference buffer for each respective ADC. Typically, 1 uF capacitors are required to decouple the reference. Provided the (See Datasheet)", 21 PD2 (in) "Logic Input. Places the AD7262/AD7262-5 in selected shutdown mode in conjunction with the PD1 and PD0 pins (see Table 7).", 22 PD1 (in) "Logic Input. Places the AD7262/AD7262-5 in selected shutdown mode in conjunction with the PD2 and PD0 pins (see Table 7).", 23 PD0/DIN (in) "Logic Input/Data Input. Places the AD7262/AD7262-5 in selected shutdown mode in conjunction with the PD2 and PD1 pins (see Table 7). If all gain selection pins, G0 to G3, are tied low, this pin acts as the data input pin, (See Datasheet)", 24 REFSEL (in) "Internal/External Reference Selection. Logic input. If this pin is tied to a logic high voltage, the onchip 2.5 V reference is used as the reference source for both ADC A and ADC B. If the REFSEL pin is tied to GND, an (See Datasheet)", 25 COUTD (out) "Comparator Outputs. These pins provide a CMOS (push-pull) output from each respective comparator. These are digital output pins with logic levels determined by the VDRIVE supply.", 26 COUTC (out) "Comparator Outputs. These pins provide a CMOS (push-pull) output from each respective comparator. These are digital output pins with logic levels determined by the VDRIVE supply.", 29 COUTB (out) "Comparator Outputs. These pins provide a CMOS (push-pull) output from each respective comparator. These are digital output pins with logic levels determined by the VDRIVE supply.", 30 COUTA (out) "Comparator Outputs. These pins provide a CMOS (push-pull) output from each respective comparator. These are digital output pins with logic levels determined by the VDRIVE supply.", 31 DOUTB (hiz) "Serial Data Outputs. The data output from the AD7262/AD7262-5 is supplied to each pin as a serial data stream in twos complement format. The bits are clocked out on the falling edge of the SCLK input. A total of 31 SCLKs is (See Datasheet)", 32 DOUTA (hiz) "Serial Data Outputs. The data output from the AD7262/AD7262-5 is supplied to each pin as a serial data stream in twos complement format. The bits are clocked out on the falling edge of the SCLK input. A total of 31 SCLKs is (See Datasheet)", 34 SCLK (in) "Serial Clock. Logic input. A serial clock input provides the SCLK for accessing the data from the AD7262/AD7262-5. This clock is also used as the clock source for the conversion process. A minimum of 31 clocks is required to (See Datasheet)", 35 ~{CS} (in) "Chip Select. Active low logic input. This input initiates conversions on the AD7262/AD7262-5.", 36 CAL (in) "Logic Input. Initiates an internal offset calibration.", 37 G3 (in) "Logic Inputs. These pins are used to program the gain setting of the front-end amplifiers. If all four pins are tied low, the PD0 pin acts as a data input pin, DIN, and all programming is made via the control register (see (See Datasheet)", 38 G2 (in) "Logic Inputs. These pins are used to program the gain setting of the front-end amplifiers. If all four pins are tied low, the PD0 pin acts as a data input pin, DIN, and all programming is made via the control register (see (See Datasheet)", 39 G1 (in) "Logic Inputs. These pins are used to program the gain setting of the front-end amplifiers. If all four pins are tied low, the PD0 pin acts as a data input pin, DIN, and all programming is made via the control register (see (See Datasheet)", 40 G0 (in) "Logic Inputs. These pins are used to program the gain setting of the front-end amplifiers. If all four pins are tied low, the PD0 pin acts as a data input pin, DIN, and all programming is made via the control register (see (See Datasheet)", 43 VREFA (io) "Reference Input/Output. Decoupling capacitors are connected to these pins to decouple the internal reference buffer for each respective ADC. Typically, 1 uF capacitors are required to decouple the reference. Provided the (See Datasheet)", 45 CB- (in) "Comparator Inputs. These pins are the inverting and noninverting analog inputs for Comparator A and Comparator B. These two comparators have very low power consumption.", 46 CB+ (in) "Comparator Inputs. These pins are the inverting and noninverting analog inputs for Comparator A and Comparator B. These two comparators have very low power consumption.", 47 CA- (in) "Comparator Inputs. These pins are the inverting and noninverting analog inputs for Comparator A and Comparator B. These two comparators have very low power consumption.", 48 CA+ (in) "Comparator Inputs. These pins are the inverting and noninverting analog inputs for Comparator A and Comparator B. These two comparators have very low power consumption."
part B pins: 1 CA_CBVCC (power) "Comparator Supply Voltage, 2.7 V to 5.25 V. This is the supply voltage for Comparator A and Comparator B. This supply should be decoupled to CA_CB_GND. AVCC, CC_CDVCC, and CA_CBVCC can be tied together.", 2 AVCC (power) "Analog Supply Voltage, 4.75 V to 5.25 V. This is the supply voltage for the analog circuitry on the AD7262/AD7262-5. All AVCC pins can be tied together. This supply should be decoupled to AGND with a 100 nF ceramic capacitor (See Datasheet)", 5 AGND (power) "Analog Ground. Ground reference point for all analog circuitry on the AD7262/AD7262-5. All  analog input signals and any external reference signal should be referred to this AGND voltage.  All AGND pins should connect to the (See Datasheet)", 6 AGND (power) "Analog Ground. Ground reference point for all analog circuitry on the AD7262/AD7262-5. All  analog input signals and any external reference signal should be referred to this AGND voltage.  All AGND pins should connect to the (See Datasheet)", 7 AVCC (power) "Analog Supply Voltage, 4.75 V to 5.25 V. This is the supply voltage for the analog circuitry on the AD7262/AD7262-5. All AVCC pins can be tied together. This supply should be decoupled to AGND with a 100 nF ceramic capacitor (See Datasheet)", 8 AGND (power) "Analog Ground. Ground reference point for all analog circuitry on the AD7262/AD7262-5. All  analog input signals and any external reference signal should be referred to this AGND voltage.  All AGND pins should connect to the (See Datasheet)", 11 AVCC (power) "Analog Supply Voltage, 4.75 V to 5.25 V. This is the supply voltage for the analog circuitry on the AD7262/AD7262-5. All AVCC pins can be tied together. This supply should be decoupled to AGND with a 100 nF ceramic capacitor (See Datasheet)", 12 CC_CDVCC (power) "Comparator Supply Voltage, 2.7 V to 5.25 V. This is the supply voltage for Comparator C and Comparator D. This supply should be decoupled to CC_CD_GND. AVCC, CC_CDVCC, and CA_CBVCC can be tied together.", 17 CC_CD_GND (power) "Comparator Ground. This is the ground reference point for all comparator circuitry on the AD7262/ AD7262-5. Both the CA_CB_GND pin and the CC_CD_GND pin should connect to the GND plane of a system and can be tied to AGND. (See Datasheet)", 19 AGND (power) "Analog Ground. Ground reference point for all analog circuitry on the AD7262/AD7262-5. All  analog input signals and any external reference signal should be referred to this AGND voltage.  All AGND pins should connect to the (See Datasheet)", 20 AVCC (power) "Analog Supply Voltage, 4.75 V to 5.25 V. This is the supply voltage for the analog circuitry on the AD7262/AD7262-5. All AVCC pins can be tied together. This supply should be decoupled to AGND with a 100 nF ceramic capacitor (See Datasheet)", 27 VDRIVE (power) "Logic Power Supply Input, 2.7 V to 5.25 V. The voltage supplied at this pin determines at what voltage the interface operates, including the comparator outputs. This pin should be decoupled to DGND.", 28 DGND (power) "Digital Ground. This is the ground reference point for all digital circuitry on the AD7262/AD7262-5. The DGND pin should be connected to the DGND plane of a system. The DGND and AGND voltages should ideally be at the same (See Datasheet)", 33 AVCC (power) "Analog Supply Voltage, 4.75 V to 5.25 V. This is the supply voltage for the analog circuitry on the AD7262/AD7262-5. All AVCC pins can be tied together. This supply should be decoupled to AGND with a 100 nF ceramic capacitor (See Datasheet)", 41 AVCC (power) "Analog Supply Voltage, 4.75 V to 5.25 V. This is the supply voltage for the analog circuitry on the AD7262/AD7262-5. All AVCC pins can be tied together. This supply should be decoupled to AGND with a 100 nF ceramic capacitor (See Datasheet)", 42 AGND (power) "Analog Ground. Ground reference point for all analog circuitry on the AD7262/AD7262-5. All  analog input signals and any external reference signal should be referred to this AGND voltage.  All AGND pins should connect to the (See Datasheet)", 44 CA_CB_GND (power) "Comparator Ground. This is the ground reference point for all comparator circuitry on the AD7262/ AD7262-5. Both the CA_CB_GND pin and the CC_CD_GND pin should connect to the GND plane of a system and can be tied to AGND. (See Datasheet)"